# EAGLE library part BORON-(V002) (library Eagle CMR)
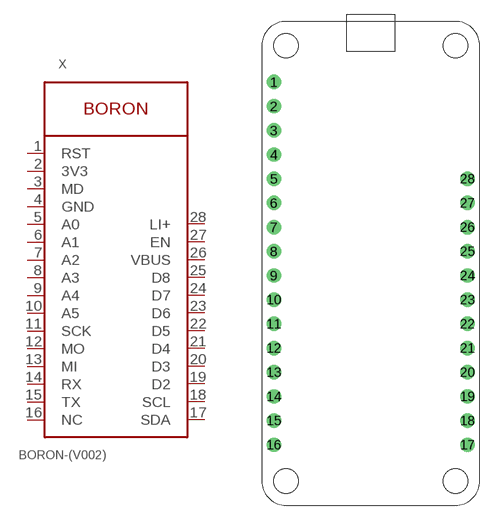
[diagram p8: symbol with the pads of BORON-(V002); footprint BORON-(V002)]

Designator prefix X

## BORON-(V002)  [BORON-(V002)]
1  RST
2  3V3
3  MD
4  GND
5  A0
6  A1
7  A2
8  A3
9  A4
10  A5
11  SCK
12  MO
13  MI
14  RX
15  TX
16  NC
17  SDA
18  SCL
19  D2
20  D3
21  D4
22  D5
23  D6
24  D7
25  D8
26  VBUS
27  EN
28  LI+

## Footprint BORON-(V002) (pad centres in mm)
drill 1: 1 -10.16,19.05; 2 -10.16,16.51; 3 -10.16,13.97; 4 -10.16,11.43; 5 -10.16,8.89; 6 -10.16,6.35; 7 -10.16,3.81; 8 -10.16,1.27; 9 -10.16,-1.27; 10 -10.16,-3.81; 11 -10.16,-6.35; 12 -10.16,-8.89; 13 -10.16,-11.43; 14 -10.16,-13.97; 15 -10.16,-16.51; 16 -10.16,-19.05; 17 10.16,-19.05; 18 10.16,-16.51; 19 10.16,-13.97; 20 10.16,-11.43; 21 10.16,-8.89; 22 10.16,-6.35; 23 10.16,-3.81; 24 10.16,-1.27; 25 10.16,1.27; 26 10.16,3.81; 27 10.16,6.35; 28 10.16,8.89
hole 2.54 at -8.89,22.86
hole 2.54 at 8.89,22.86
hole 2.54 at -8.89,-22.86
hole 2.54 at 8.89,-22.86